# Altium footprint library AlbinsComponents.PcbLib: 8 footprints
Each footprint in its own frame and in the unit in brackets; x right, y up, seen from the top. Pads: shape width x height; smd on the part's side, far side on the other; paste and mask are expansions set on the pad; w line width, h text height; cw(c..) or ccw(c..) is an arc to the next point about the centre after c.
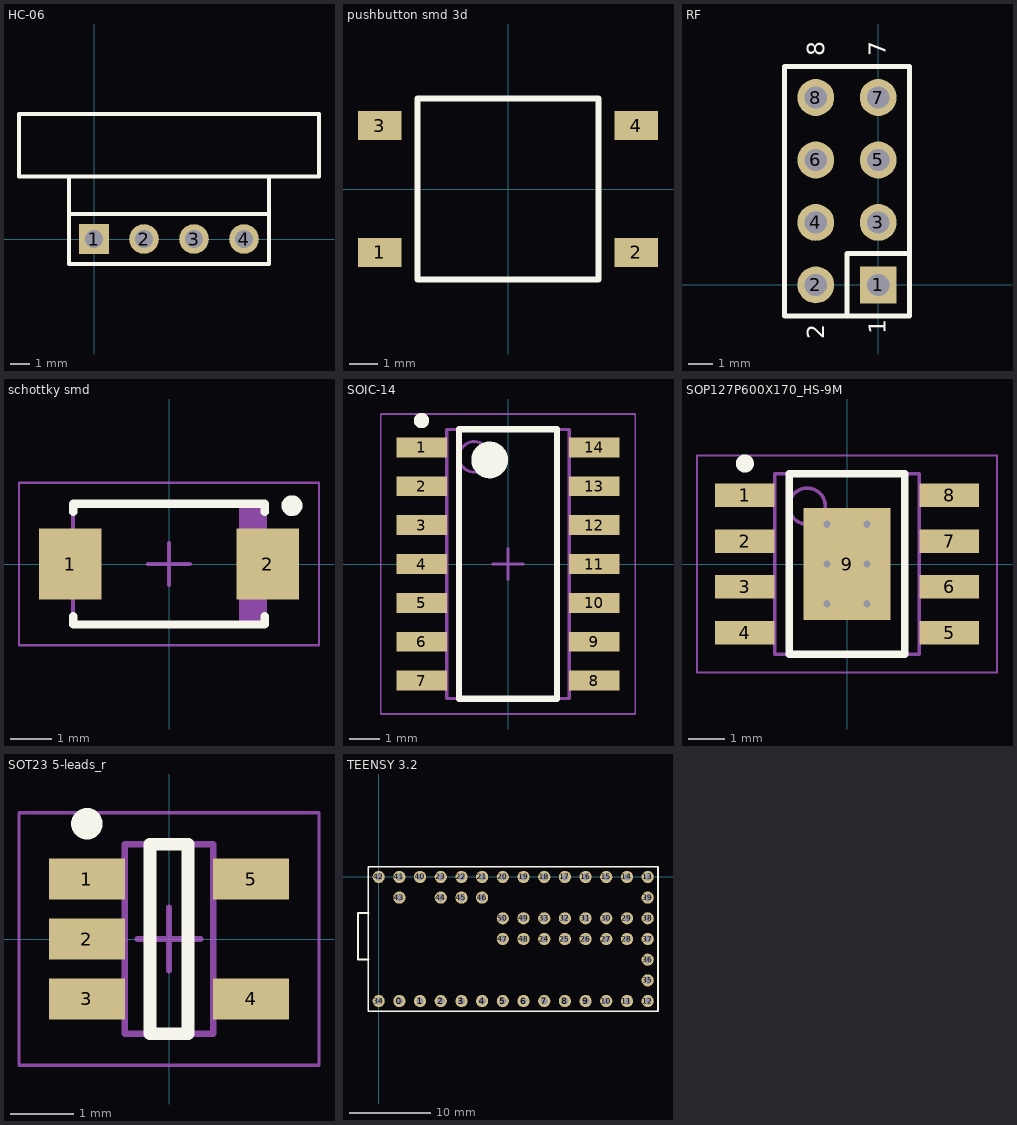
[diagram p0: the footprints below, top view; thin cyan lines are the x and y axes]

## HC-06 [mm]
pads (4):
  rect 1.5x1.5 hole 0.9: 1(0,0)
  round 1.5 hole 0.9: 2(2.54,0) 3(5.08,0) 4(7.62,0)
Top Overlay:
  lines w0.2: -1.27,3.175 -1.27,1.27 ; 8.89,3.175 8.89,1.27 ; -1.27,1.27 8.89,1.27 ; -1.27,1.27 -1.27,-1.27 8.89,-1.27 8.89,1.27 ; -3.81,3.175 -3.81,6.35 11.43,6.35 11.43,3.175 -3.81,3.175
3D body "User Library-HC-06.step": height 44, standoff 1.25, extent -3.57,-0.385 11.43,5.715
3D body: height 4.49, standoff -13.9, extent -3.81,6.35 -3.81,6.35
3D body: height 4.49, standoff -13.9, extent -1.905,5.715 -1.905,5.715

## pushbutton smd 3d [mil]
pads (4):
  rect 60x40 smd: 1(-177.17,-87.5) 2(177.17,-87.5) 3(-177.17,87.5) 4(177.17,87.5)
Top Overlay:
  lines w8: -125,-125 125,-125 125,125 -125,125 -125,-125
3D body "Tactal Switch - SMD (6mmx 6mmx 4.3mm) - Marked.stp": height 169.29, standoff 0, extent -177.49,-118.74 177.51,118.75

## RF [mm]
pads (8):
  rect 1.5x1.5 hole 0.9: 1(0,0)
  round 1.5 hole 0.9: 2(-2.54,0) 3(0,2.54) 4(-2.54,2.54) 5(0,5.08) 6(-2.54,5.08) 7(0,7.62) 8(-2.54,7.62)
Top Overlay:
  lines w0.2: -1.27,-1.27 -1.27,1.27 1.27,1.27 ; -3.81,-1.27 1.27,-1.27 1.27,8.89 -3.81,8.89 -3.81,-1.27
  text "8" at -2.2,9.3 h0.7
  text "7" at 0.3,9.3 h0.7
  text "1" at 0.3,-2 h0.7
  text "2" at -2.2,-2.2 h0.7
3D body "MY-NRF24L01P-lower v1.step": height 6.7, standoff 0.14, extent -27.4,-1.575 1.6,13.425

## schottky smd [mm] "Molded Diode, 2-Leads, Body 4,28x2,58mm, IPC Low Density"
height 2.45
pads (2):
  rect 1.5x1.7 smd: 1(-2.375,0) 2(2.375,0)
Top Overlay:
  circle w0.25: c2.95,1.4 r0.125
  lines w0.2: -2.3,-1.25 -2.3,-1.45 2.3,-1.45 2.3,-1.25 ; -2.3,1.25 -2.3,1.45 2.3,1.45 2.3,1.25
Mechanical 13:
  rectangle: 1.681,-1.45 2.3,1.45
  lines w0.1: -2.3,-1.45 -2.3,1.45 2.3,1.45 2.3,-1.45 -2.3,-1.45
Mechanical 15:
  lines w0.05: -3.6,-1.95 -3.6,1.95 3.6,1.95 3.6,-1.95 -3.6,-1.95
  lines w0.1: -0.5,0 0.5,0 ; 0,-0.5 0,0.5
3D body "DIOM4326X24M.step": height 2.45, standoff 0, extent -2.52,-1.45 2.52,1.45

## SOIC-14 [mm] "SOIC, 14-Leads, Body 8,65x3,90mm, Pitch 1,27mm, IPC Low Density"
height 1.75
pads (14):
  rect 1.65x0.65 smd: 1(-2.825,3.81) 2(-2.825,2.54) 3(-2.825,1.27) 4(-2.825,0) 5(-2.825,-1.27) 6(-2.825,-2.54) 7(-2.825,-3.81) 8(2.825,-3.81) 9(2.825,-2.54) 10(2.825,-1.27) 11(2.825,0) 12(2.825,1.27) 13(2.825,2.54) 14(2.825,3.81)
Top Overlay:
  circle w0.6: c-0.6,3.4 r0.3
  circle w0.25: c-2.825,4.685 r0.125
  lines w0.2: -1.6,-4.4 1.6,-4.4 1.6,4.4 -1.6,4.4 -1.6,-4.4
Mechanical 13:
  circle w0.1: c-1.1,3.5 r0.5
  lines w0.1: -2,-4.4 2,-4.4 2,4.4 -2,4.4 -2,-4.4
Mechanical 15:
  lines w0.05: -4.15,-4.9 4.15,-4.9 4.15,4.9 -4.15,4.9 -4.15,-4.9
  lines w0.1: -0.5,0 0.5,0 ; 0,-0.5 0,0.5
3D body "SOIC-14.step": height 1.75, standoff 0, extent -3,-4.4 3,4.4

## SOP127P600X170_HS-9M [mm] "SOP, 8-Leads, Body 4,90x3,90mm, Pitch 1,27mm, Thermal Pad 3,10x2,40mm, IPC Low Density"
height 1.7
pads (9):
  rect 1.65x0.65 smd: 1(-2.825,1.905) 2(-2.825,0.635) 3(-2.825,-0.635) 4(-2.825,-1.905) 5(2.825,-1.905) 6(2.825,-0.635) 7(2.825,0.635) 8(2.825,1.905)
  rect 2.4x3.1 smd: 9(0,0)
via 0.55,-1.1 diameter 0.5 hole 0.2
via -0.55,-1.1 diameter 0.5 hole 0.2
via 0.55,0 diameter 0.5 hole 0.2
via -0.55,0 diameter 0.5 hole 0.2
via 0.55,1.1 diameter 0.5 hole 0.2
via -0.55,1.1 diameter 0.5 hole 0.2
Top Overlay:
  circle w0.25: c-2.825,2.78 r0.125
  lines w0.2: -1.6,-2.5 1.6,-2.5 1.6,2.5 -1.6,2.5 -1.6,-2.5
Mechanical 13:
  circle w0.1: c-1.1,1.6 r0.5
  lines w0.1: -2,-2.5 2,-2.5 2,2.5 -2,2.5 -2,-2.5
Mechanical 15:
  lines w0.05: -4.15,-3 4.15,-3 4.15,3 -4.15,3 -4.15,-3
  lines w0.1: -0.5,0 0.5,0 ; 0,-0.5 0,0.5
3D body "SOP127P600X170_HS-9M.step": height 1.7, standoff 0, extent -3,-2.5 3,2.5

## SOT23 5-leads_r [mm] "SOT23, 5-Leads, Body 2,90x2,45mm, Pitch 0,95mm, IPC Low Density"
height 1.1
pads (5):
  rect 1.2x0.65 smd: 1(-1.3,0.95) 2(-1.3,0) 3(-1.3,-0.95) 4(1.3,-0.95) 5(1.3,0.95)
Top Overlay:
  circle w0.25: c-1.3,1.825 r0.125
  lines w0.2: -0.3,-1.5 0.3,-1.5 0.3,1.5 -0.3,1.5 -0.3,-1.5
Mechanical 13:
  lines w0.1: -0.7,-1.5 -0.7,1.5 0.7,1.5 0.7,-1.5 -0.7,-1.5
Mechanical 15:
  lines w0.05: -2.375,-2 -2.375,2 2.375,2 2.375,-2 -2.375,-2
  lines w0.1: -0.5,0 0.5,0 ; 0,-0.5 0,0.5
3D body "SOT95P245X110-5M.step": height 1.1, standoff 0, extent -1.3,-1.5 1.3,1.5

## TEENSY 3.2 [mm]
pads (51):
  round 1.5 hole 0.9: 0(2.54,-15.24) 1(5.08,-15.24) 2(7.62,-15.24) 3(10.16,-15.24) 4(12.7,-15.24) 5(15.24,-15.24) 6(17.78,-15.24) 7(20.32,-15.24) 8(22.86,-15.24) 9(25.4,-15.24) 10(27.94,-15.24) 11(30.48,-15.24) 12(33.02,-15.24) 13(33.02,0) 14(30.48,0) 15(27.94,0) 16(25.4,0) 17(22.86,0) 18(20.32,0) 19(17.78,0) 20(15.24,0) 21(12.7,0) 22(10.16,0) 23(7.62,0) 24(20.32,-7.62) 25(22.86,-7.62) 26(25.4,-7.62) 27(27.94,-7.62) 28(30.48,-7.62) 29(30.48,-5.08) 30(27.94,-5.08) 31(25.4,-5.08) 32(22.86,-5.08) 33(20.32,-5.08) 34(0,-15.24) 35(33.02,-12.7) 36(33.02,-10.16) 37(33.02,-7.62) 38(33.02,-5.08) 39(33.02,-2.54) 40(5.08,0) 41(2.54,0) 42(0,0) 43(2.54,-2.54) 44(7.62,-2.54) 45(10.16,-2.54) 46(12.7,-2.54) 47(15.24,-7.62) 48(17.78,-7.62) 49(17.78,-5.08) 50(15.24,-5.08)
Top Overlay:
  lines w0.2: -1.27,-16.51 -1.27,-1.27 -1.27,1.27 34.29,1.27 34.29,-16.51 -1.27,-16.51
  lines w0.254: -1.27,-10.16 -2.54,-10.16 -2.54,-4.445 -1.27,-4.445
3D body "Teensy_3_1 with headers.step": height 15.49, standoff -2.9, extent -2.606,-16.51 34.356,1.294
3D body: height 0.25, standoff 0, extent 10.16,-10.16 10.16,-10.16
3D body: height 0.25, standoff 0, extent 6.35,-11.43 6.35,-11.43